# Altium footprint library Footprints.PcbLib: 7 footprints
Each footprint in its own frame and in the unit in brackets; x right, y up, seen from the top. Pads: shape width x height; smd on the part's side, far side on the other; paste and mask are expansions set on the pad; w line width, h text height; cw(c..) or ccw(c..) is an arc to the next point about the centre after c.
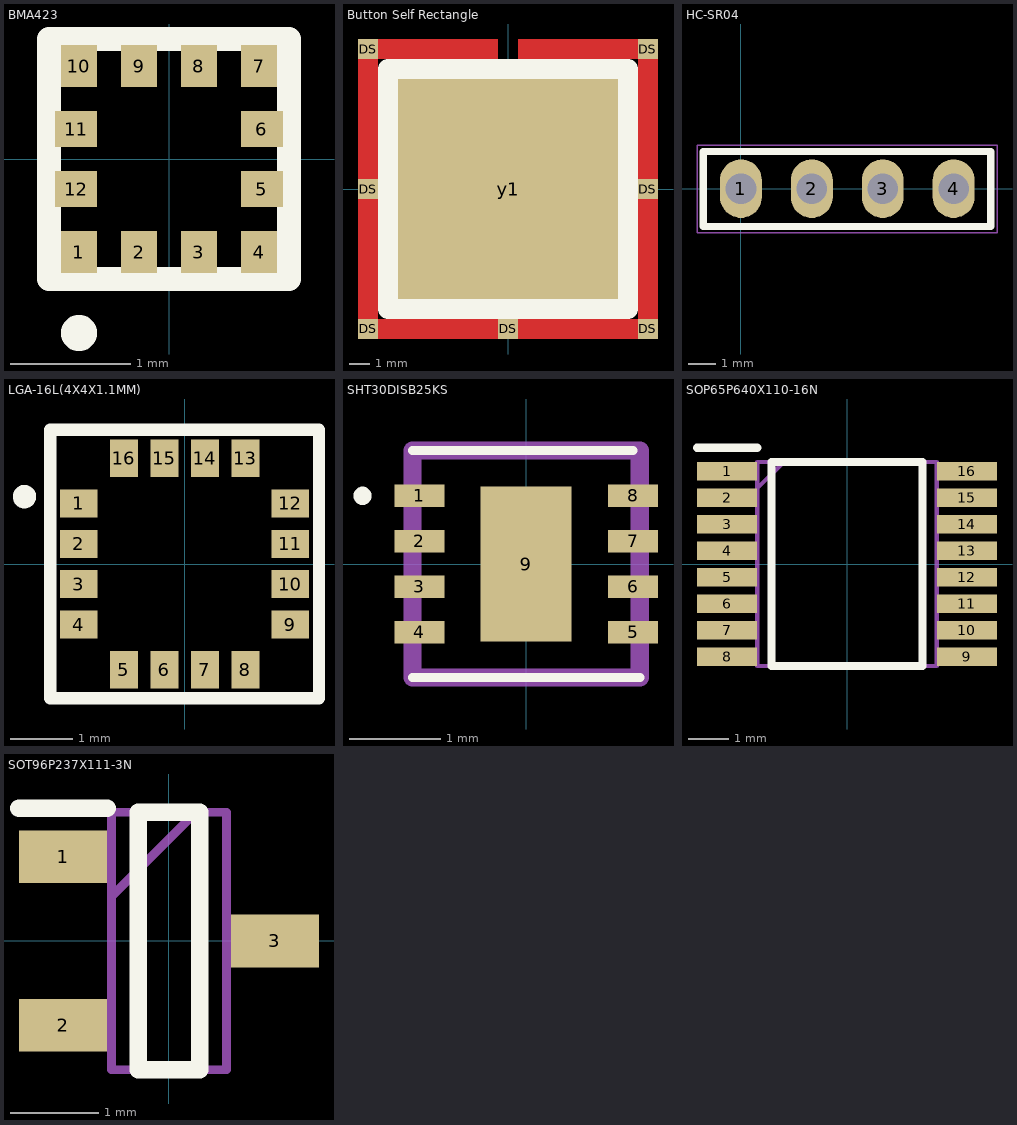
[diagram p0: the footprints below, top view; thin cyan lines are the x and y axes]

## BMA423 [mm]
pads (12):
  rect 0.3x0.35 smd: 1(-0.75,-0.775) 2(-0.25,-0.775) 3(0.25,-0.775) 4(0.75,-0.775) 7(0.75,0.775) 8(0.25,0.775) 9(-0.25,0.775) 10(-0.75,0.775)
  rect 0.35x0.3 smd: 5(0.775,-0.25) 6(0.775,0.25) 11(-0.775,0.25) 12(-0.775,-0.25)
Top Overlay:
  lines w0.2: -0.75,-1.5 cw(c-0.75,-1.45) -0.75,-1.4 ; -0.75,-1.5 ccw(c-0.75,-1.45) -0.75,-1.4 ; -0.75,-1.5 cw(c-0.75,-1.45) -0.75,-1.4 ; -1,-1 1,-1 1,1 -1,1 -1,-1
3D body "BMA423.stp": height 1.1, standoff 0, extent -1,-1 1,1

## Button Self Rectangle [mm]
pads (8):
  rect 1x1 smd paste-12 mask-12: DS(-7,-7) DS(-7,0) DS(-7,7) DS(0,-7) DS(7,-7) DS(7,0) DS(7,7)
  rect 11x11 smd paste-12 mask-12: y1(0,0)
Top Layer:
  rectangle: -7.5,6.5 -0.5,7.5
  rectangle: 0.5,6.5 7.5,7.5
  lines w1: -7,7 -7,-7 7,-7 7,7
Top Overlay:
  lines w1: -6,-6 -6,6 6,6 6,-6 -6,-6

## HC-SR04 [mm]
pads (4):
  oval 1.5x2.1 hole 1.1: 1(0,0) 2(2.54,0) 3(5.08,0) 4(7.62,0)
Top Overlay:
  lines w0.254: -1.35,-1.35 -1.35,1.325 8.95,1.325 8.95,-1.35 -1.35,-1.35
Mechanical 15:
  lines w0.05: -1.575,-1.575 -1.575,-1.55 -1.575,1.55 9.175,1.55 9.175,1.525 9.175,-1.575 9.15,-1.575 -1.562,-1.575 -1.575,-1.562 -1.575,-1.575
3D body "HC-SR04-UltrasonicSensor v7.step": height 24.5, standoff -1.7, extent -19.075,-17.45 26.375,0.34
3D body "pcb_connector_346-87-102-41-036101.stp": height 4.45, standoff -2.75, extent -1.28,-1.3 3.8,1.24
3D body "pcb_connector_346-87-102-41-036101.stp": height 4.45, standoff -2.75, extent 3.8,-1.3 8.88,1.24

## LGA-16L(4X4X1.1MM) [mm]
pads (16):
  rect 0.6x0.45 smd: 1(-1.7,0.975) 2(-1.7,0.325) 3(-1.7,-0.325) 4(-1.7,-0.975) 9(1.7,-0.975) 10(1.7,-0.325) 11(1.7,0.325) 12(1.7,0.975)
  rect 0.45x0.6 smd: 5(-0.975,-1.7) 6(-0.325,-1.7) 7(0.325,-1.7) 8(0.975,-1.7) 13(0.975,1.7) 14(0.325,1.7) 15(-0.325,1.7) 16(-0.975,1.7)
Top Overlay:
  circle w0.2: c-2.572,1.082 r0.088
  lines w0.2: -2.159,-2.159 2.159,-2.159 2.159,2.159 -2.159,2.159 -2.159,-2.159

## SHT30DISB25KS [mm]
pads (9):
  rect 0.55x0.25 smd: 1(-1.175,0.75) 2(-1.175,0.25) 3(-1.175,-0.25) 4(-1.175,-0.75) 5(1.175,-0.75) 6(1.175,-0.25) 7(1.175,0.25) 8(1.175,0.75)
  rect 1x1.7 smd: 9(0,0)
Top Overlay:
  lines w0.1: -1.25,-1.25 1.25,-1.25 ; -1.25,1.25 1.175,1.25 ; -1.85,0.75 ccw(c-1.8,0.75) -1.75,0.75 ccw(c-1.8,0.75) -1.85,0.75
Mechanical 13:
  lines w0.2: -1.25,-1.25 -1.25,1.25 1.25,1.25 1.25,-1.25 -1.25,-1.25
3D body "SHT30-DIS-B2.5KS.stp": height 1.1, standoff 0, extent -1.25,-1.25 1.25,1.25

## SOP65P640X110-16N [mm]
pads (16):
  rect 1.475x0.45 smd: 1(-2.938,2.275) 2(-2.938,1.625) 3(-2.938,0.975) 4(-2.938,0.325) 5(-2.938,-0.325) 6(-2.938,-0.975) 7(-2.938,-1.625) 8(-2.938,-2.275) 9(2.938,-2.275) 10(2.938,-1.625) 11(2.938,-0.975) 12(2.938,-0.325) 13(2.938,0.325) 14(2.938,0.975) 15(2.938,1.625) 16(2.938,2.275)
Top Overlay:
  lines w0.2: -3.675,2.85 -2.2,2.85 ; -1.85,-2.5 -1.85,2.5 1.85,2.5 1.85,-2.5 -1.85,-2.5
Mechanical 13:
  lines w0.1: -2.2,1.85 -1.55,2.5 ; -2.2,-2.5 -2.2,2.5 2.2,2.5 2.2,-2.5 -2.2,-2.5
3D body "PCA9557PW,118.stp": height 1.1, standoff 0, extent -3.2,-2.5 3.2,2.5

## SOT96P237X111-3N [mm]
pads (3):
  rect 1x0.6 smd: 1(-1.2,0.955) 2(-1.2,-0.955) 3(1.2,0)
Top Overlay:
  lines w0.2: -1.7,1.505 -0.7,1.505 ; -0.35,-1.46 0.35,-1.46 0.35,1.46 -0.35,1.46 -0.35,-1.46
Mechanical 13:
  lines w0.1: -0.65,0.505 0.305,1.46 ; -0.65,-1.46 0.65,-1.46 0.65,1.46 -0.65,1.46 -0.65,-1.46
3D body "NTR4501NT1G.stp": height 1.11, standoff 0, extent -1.185,-1.46 1.185,1.46